# Altium schematic symbol library LFE5UM5G-85F-8MG285C.SchLib: 1 symbol
Pins are listed as number, name and electrical type; pins without a type are passive.

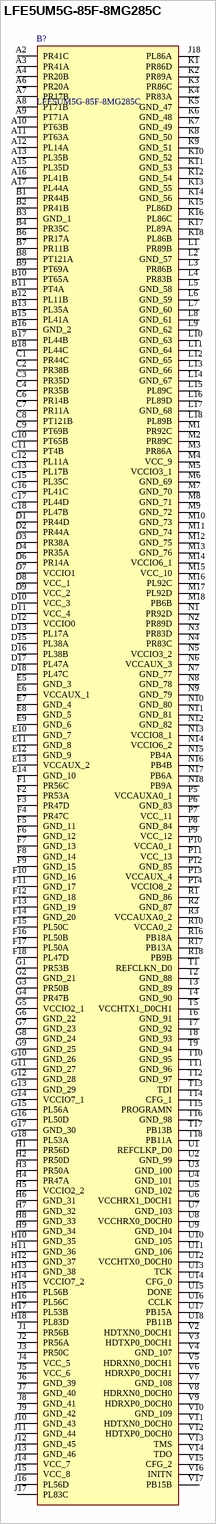
[diagram p0: symbol LFE5UM5G-85F-8MG285C]

## LFE5UM5G-85F-8MG285C
designator B?
ECP5-5G Field Programmable Gate Array (FPGA) IC 118 3833856 84000 285-TFBGA; Manufacturer_Name: Lattice Semiconductor; Geometry.Height: 1.3mm; Mouser Part Number: 842-5UM5G85F8MG285C; Mouser Price/Stock: https://www.mouser.co.uk/ProductDetail/Lattice/LFE5UM5G-85F-8MG285C?qs=Rp3RbKSfAt0l1MN8lieMGw%3D%3D; Manufacturer_Part_Number: LFE5UM5G-85F-8MG285C; Datasheet Link: https://datasheet.datasheetarchive.com/originals/distributors/DKDS41/DSANUWW0025462.pdf
footprint BGA285C50P18X18_1000X1000X130
pins: A2 PR41C, A3 PR41A, A4 PR20B, A6 PR20A, A7 PR17B, A8 PT71B, A9 PT71A, A10 PT63B, A11 PT63A, A12 PL14A, A13 PL35B, A15 PL35D, A16 PL41B, A17 PL44A, B1 PR44B, B2 PR41B, B3 GND_1, B4 PR35C, B6 PR17A, B7 PR11B, B8 PT121A, B9 PT69A, B10 PT65A, B11 PT4A, B12 PL11B, B13 PL35A, B15 PL41A, B16 GND_2, B17 PL44B, B18 PL44C, C1 PR44C, C2 PR38B, C3 PR35D, C4 PR35B, C6 PR14B, C7 PR11A, C8 PT121B, C9 PT69B, C10 PT65B, C11 PT4B, C12 PL11A, C13 PL17B, C15 PL35C, C16 PL41C, C17 PL44D, C18 PL47B, D1 PR44D, D2 PR44A, D3 PR38A, D4 PR35A, D6 PR14A, D7 VCCIO1, D8 VCC_1, D9 VCC_2, D10 VCC_3, D11 VCC_4, D12 VCCIO0, D13 PL17A, D15 PL38A, D16 PL38B, D17 PL47A, D18 PL47C, E5 GND_3, E6 VCCAUX_1, E7 GND_4, E8 GND_5, E9 GND_6, E10 GND_7, E11 GND_8, E12 GND_9, E13 VCCAUX_2, E14 GND_10, F1 PR56C, F2 PR53A, F3 PR47D, F4 PR47C, F5 GND_11, F6 GND_12, F7 GND_13, F8 GND_14, F9 GND_15, F10 GND_16, F11 GND_17, F12 GND_18, F13 GND_19, F14 GND_20, F15 PL50C, F16 PL50B, F17 PL50A, F18 PL47D, G1 PR53B, G2 GND_21, G3 PR50B, G4 PR47B, G5 VCCIO2_1, G6 GND_22, G7 GND_23, G8 GND_24, G9 GND_25, G10 GND_26, G11 GND_27, G12 GND_28, G13 GND_29, G14 VCCIO7_1, G15 PL56A, G16 PL50D, G17 GND_30, G18 PL53A, H1 PR56D, H2 PR50D, H3 PR50A, H4 PR47A, H5 VCCIO2_2, H6 GND_31, H7 GND_32, H8 GND_33, H9 GND_34, H10 GND_35, H11 GND_36, H12 GND_37, H13 GND_38, H14 VCCIO7_2, H15 PL56B, H16 PL56C, H17 PL53B, H18 PL83D, J1 PR56B, J2 PR56A, J3 PR50C, J4 VCC_5, J5 VCC_6, J6 GND_39, J7 GND_40, J8 GND_41, J9 GND_42, J10 GND_43, J11 GND_44, J12 GND_45, J13 GND_46, J14 VCC_7, J15 VCC_8, J16 PL56D, J17 PL83C, J18 PL86A, K1 PR86D, K2 PR89A, K3 PR86C, K4 PR83A, K5 GND_47, K6 GND_48, K7 GND_49, K8 GND_50, K9 GND_51, K10 GND_52, K11 GND_53, K12 GND_54, K13 GND_55, K14 GND_56, K15 PL86D, K16 PL86C, K17 PL89A, K18 PL86B, L1 PR89B, L2 GND_57, L3 PR86B, L4 PR83B, L5 GND_58, L6 GND_59, L7 GND_60, L8 GND_61, L9 GND_62, L10 GND_63, L11 GND_64, L12 GND_65, L13 GND_66, L14 GND_67, L15 PL89C, L16 PL89D, L17 GND_68, L18 PL89B, M1 PR92C, M2 PR89C, M3 PR86A, M4 VCC_9, M5 VCCIO3_1, M6 GND_69, M7 GND_70, M8 GND_71, M9 GND_72, M10 GND_73, M11 GND_74, M12 GND_75, M13 GND_76, M14 VCCIO6_1, M15 VCC_10, M16 PL92C, M17 PL92D, M18 PB6B, N1 PR92D, N2 PR89D, N3 PR83D, N4 PR83C, N5 VCCIO3_2, N6 VCCAUX_3, N7 GND_77, N8 GND_78, N9 GND_79, N10 GND_80, N11 GND_81, N12 GND_82, N13 VCCIO8_1, N14 VCCIO6_2, N15 PB4A, N16 PB4B, N17 PB6A, N18 PB9A, P5 VCCAUXA0_1, P6 GND_83, P7 VCC_11, P8 GND_84, P9 VCC_12, P10 VCCA0_1, P11 VCC_13, P12 GND_85, P13 VCCAUX_4, P14 VCCIO8_2, R1 GND_86, R2 GND_87, R3 VCCAUXA0_2, R10 VCCA0_2, R16 PB18A, R17 PB13A, R18 PB9B, T1 REFCLKN_D0, T2 GND_88, T3 GND_89, T4 GND_90, T5 VCCHTX1_D0CH1, T6 GND_91, T7 GND_92, T8 GND_93, T9 GND_94, T10 GND_95, T11 GND_96, T12 GND_97, T13 TDI, T14 CFG_1, T15 PROGRAMN, T16 GND_98, T17 PB13B, T18 PB11A, U1 REFCLKP_D0, U2 GND_99, U3 GND_100, U4 GND_101, U5 GND_102, U6 VCCHRX1_D0CH1, U7 GND_103, U8 VCCHRX0_D0CH0, U9 GND_104, U10 GND_105, U11 GND_106, U12 VCCHTX0_D0CH0, U13 TCK, U14 CFG_0, U15 DONE, U16 CCLK, U17 PB15A, U18 PB11B, V2 HDTXN0_D0CH1, V3 HDTXP0_D0CH1, V4 GND_107, V5 HDRXN0_D0CH1, V6 HDRXP0_D0CH1, V7 GND_108, V8 HDRXN0_D0CH0, V9 HDRXP0_D0CH0, V10 GND_109, V11 HDTXN0_D0CH0, V12 HDTXP0_D0CH0, V13 TMS, V14 TDO, V15 CFG_2, V16 INITN, V17 PB15B